# EAGLE library part LCD-HD44780-16-PIN_FEMALE_HEADER (library myLib-01-Headers)
Header for the 16 pin HD44780 LCD module Female
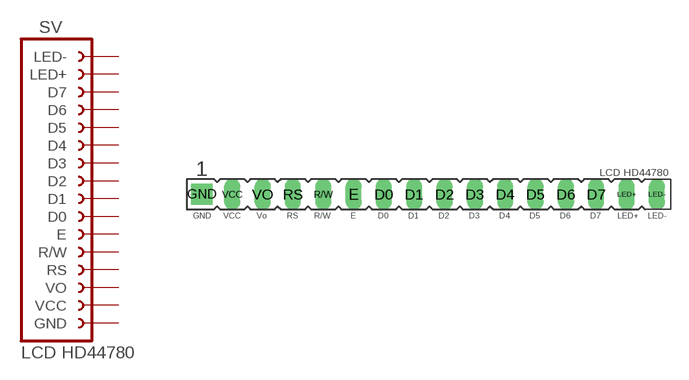
[diagram p2: symbol with the pads of LCD-HD44780-16-PIN_FEMALE_HEADER; footprint LCD-HD44780-16-PIN_FEMALE_HEADER]

Designator prefix SV

## LCD-HD44780-16-PIN_FEMALE_HEADER (OC_FARNELL: unknown; OC_NEWARK: unknown)  [LCD-HD44780-16-PIN_FEMALE_HEADER]
D0  D0  pas
D1  D1  pas
D2  D2  pas
D3  D3  pas
D4  D4  pas
D5  D5  pas
D6  D6  pas
D7  D7  pas
E  E  pas
GND  GND  pas
LED+  LED+  pas
LED-  LED-  pas
R/W  R/W  pas
RS  RS  pas
VCC  VCC  pas
VO  VO  pas

## Footprint LCD-HD44780-16-PIN_FEMALE_HEADER (pad centres in mm)
FEMALE HEADER
drill 0.813 long: D0 15.24,0; D1 17.78,0; D2 20.32,0; D3 22.86,0; D4 25.4,0; D5 27.94,0; D6 30.48,0; D7 33.02,0; E 12.7,0; LED+ 35.56,0; LED- 38.1,0; R/W 10.16,0; RS 7.62,0; VCC 2.54,0; VO 5.08,0
drill 0.813 pad 1.778 square: GND 0,0